# Altium schematic symbol library HSMS-285C-BLKG.SchLib: 1 symbol
Pins are listed as number, name and electrical type; pins without a type are passive.

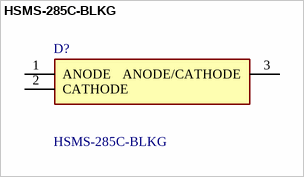
[diagram p0: symbol HSMS-285C-BLKG]

## HSMS-285C-BLKG
designator D?
BROADCOM LIMITED - HSMS-285C-BLKG - DIODE, SCHOTTKY, SOT-323; Manufacturer_Name: Avago Technologies; Geometry.Height: 1mm; Manufacturer_Part_Number: HSMS-285C-BLKG; Mouser Part Number: 630-HSMS-285C-BLKG; Mouser Price/Stock: https://www.mouser.co.uk/ProductDetail/Broadcom-Avago/HSMS-285C-BLKG?qs=RQ9zk%252B50r5G0GuS6%252Bi8wOg%3D%3D; Arrow Part Number: *; Arrow Price/Stock: *; Datasheet Link: https://datasheet.datasheetarchive.com/originals/distributors/Datasheets_SAMA/a18ba574cb231f6ca9f6e17d40f360bc.pdf
footprint SOT65P210X100-3N
pins: 1 ANODE, 2 CATHODE, 3 ANODE/CATHODE